# Altium footprint library SM_8-PowerTDFN.PcbLib: 1 footprints
Each footprint in its own frame and in the unit in brackets; x right, y up, seen from the top. Pads: shape width x height; smd on the part's side, far side on the other; paste and mask are expansions set on the pad; w line width, h text height; cw(c..) or ccw(c..) is an arc to the next point about the centre after c.
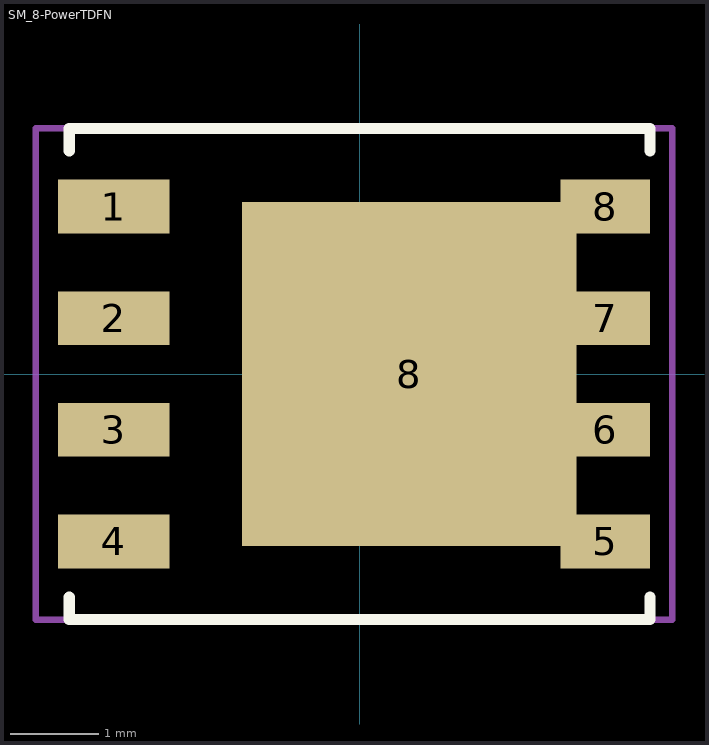
[diagram p0: the footprint, top view; thin cyan lines are the x and y axes]

## SM_8-PowerTDFN [mm] "Power DI5060-8"
pads (9):
  rect 1.27x0.61 smd: 1(-2.795,1.905) 2(-2.795,0.635) 3(-2.795,-0.635) 4(-2.795,-1.905)
  rect 1.02x0.61 smd: 5(2.795,-1.905) 6(2.795,-0.635) 7(2.795,0.635) 8(2.795,1.905)
  rect 3.81x3.91 smd: 8(0.565,0)
Top Overlay:
  lines w0.127: -3.302,-2.54 -3.302,-2.794 3.302,-2.794 3.302,-2.54 ; -3.302,2.54 -3.302,2.794 3.302,2.794 3.302,2.54
Mechanical 15:
  lines w0.076: -0.254,0 0.254,0 ; 0,-0.254 0,0.254 ; -3.683,-2.794 3.556,-2.794 3.556,2.794 -3.683,2.794 -3.683,-2.794
3D body: height 1.12, standoff 0, extent -3,-2.525 3,2.525